# EAGLE library part 82C89 (library micro-harris)
MICROCONTROLLER/MEMORY DEVICE
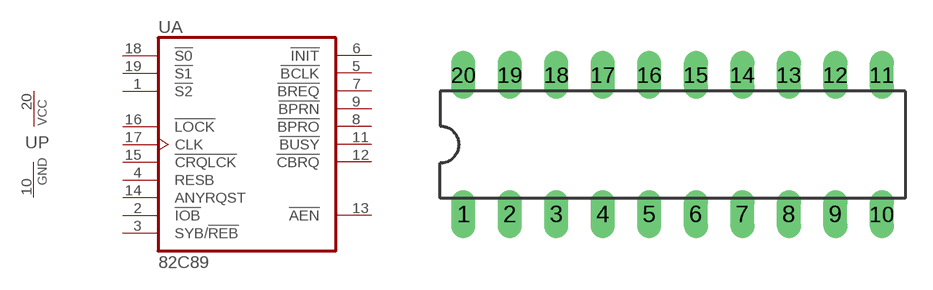
[diagram p10: symbol with the pads of DIL20; footprint DIL20]

Designator prefix U; gates A=82C89 P=PWRN

## 82C89 (MF: INTERSIL; MPN: CP82C89; OC_FARNELL: unknown; OC_NEWARK: 16F4897)  [DIL20]
1  A:!S2  in
2  A:!IOB  in
3  A:SYB/!REB  in
4  A:RESB  in
5  A:!BCLK  in
6  A:!INIT  in
7  A:!BREQ  out
8  A:!BPRO  out
9  A:!BPRN  in
10  P:GND  pwr
11  A:!BUSY
12  A:!CBRQ
13  A:!AEN  out
14  A:ANYRQST  in
15  A:!CRQLCK  in
16  A:!LOCK  in
17  A:CLK  in
18  A:!S0  in
19  A:!S1  in
20  P:VCC  pwr

## Footprint DIL20 (pad centres in mm)
Dual In Line Package
drill 0.813 long: 1 -11.43,-3.81; 2 -8.89,-3.81; 3 -6.35,-3.81; 4 -3.81,-3.81; 5 -1.27,-3.81; 6 1.27,-3.81; 7 3.81,-3.81; 8 6.35,-3.81; 9 8.89,-3.81; 10 11.43,-3.81; 11 11.43,3.81; 12 8.89,3.81; 13 6.35,3.81; 14 3.81,3.81; 15 1.27,3.81; 16 -1.27,3.81; 17 -3.81,3.81; 18 -6.35,3.81; 19 -8.89,3.81; 20 -11.43,3.81